# Altium integrated library WE-CMBH_rev15b.intlib: 5 symbols
Pins are listed as number, name and electrical type; pins without a type are passive.

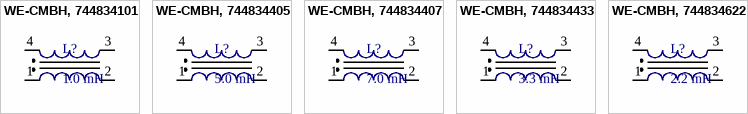
[diagram p0: symbols WE-CMBH, 744834101 to WE-CMBH, 744834622]

## WE-CMBH, 744834101
designator L?, comment 1.0 mH
THT Common Mode Power Line Choke WE-CMBH, L=1.0 mH; PartNo: 744834101; Manufacturer: Würth Elektronik eiSos GmbH; Inductance: 1.0 mH; ComponentLink1Description: Manufacturer; ComponentLink1URL: http://www.we-online.de; Created by: Otto Christin; Created Date: Aug 2013; ComponentLink2Description: Datasheet; ComponentLink2URL: http://www.we-online.de/katalog/media/pdf/744834101.pdf
footprint WE-CMBH (THT Inductor, 4-Leads, Body 28 x 32.5mm)
pins: 1, 2, 3, 4

## WE-CMBH, 744834405
designator L?, comment 5.0 mH
THT Common Mode Power Line Choke WE-CMBH, L=5.0 mH; PartNo: 744834405; Manufacturer: Würth Elektronik eiSos GmbH; Inductance: 5.0 mH; ComponentLink1Description: Manufacturer; ComponentLink1URL: http://www.we-online.de; Created by: Otto Christin; Created Date: Aug 2013; ComponentLink2Description: Datasheet; ComponentLink2URL: http://www.we-online.de/katalog/media/pdf/744834405.pdf
footprint WE-CMBH (THT Inductor, 4-Leads, Body 28 x 32.5mm)
pins: 1, 2, 3, 4

## WE-CMBH, 744834407
designator L?, comment 7.0 mH
THT Common Mode Power Line Choke WE-CMBH, L=7.0 mH; PartNo: 744834407; Manufacturer: Würth Elektronik eiSos GmbH; Inductance: 7.0 mH; ComponentLink1Description: Manufacturer; ComponentLink1URL: http://www.we-online.de; Created by: Otto Christin; Created Date: Aug 2013; ComponentLink2Description: Datasheet; ComponentLink2URL: http://www.we-online.de/katalog/media/pdf/744834407.pdf
footprint WE-CMBH (THT Inductor, 4-Leads, Body 28 x 32.5mm)
pins: 1, 2, 3, 4

## WE-CMBH, 744834433
designator L?, comment 3.3 mH
THT Common Mode Power Line Choke WE-CMBH, L=3.3 mH; PartNo: 744834433; Manufacturer: Würth Elektronik eiSos GmbH; Inductance: 3.3 mH; ComponentLink1Description: Manufacturer; ComponentLink1URL: http://www.we-online.de; Created by: Otto Christin; Created Date: Aug 2013; ComponentLink2Description: Datasheet; ComponentLink2URL: http://www.we-online.de/katalog/media/pdf/744834433.pdf
footprint WE-CMBH (THT Inductor, 4-Leads, Body 28 x 32.5mm)
pins: 1, 2, 3, 4

## WE-CMBH, 744834622
designator L?, comment 2.2 mH
THT Common Mode Power Line Choke WE-CMBH, L=2.2 mH; PartNo: 744834622; Manufacturer: Würth Elektronik eiSos GmbH; Inductance: 2.2 mH; ComponentLink1Description: Manufacturer; ComponentLink1URL: http://www.we-online.de; Created by: Otto Christin; Created Date: Aug 2013; ComponentLink2Description: Datasheet; ComponentLink2URL: http://www.we-online.de/katalog/media/pdf/744834622.pdf
footprint WE-CMBH (THT Inductor, 4-Leads, Body 28 x 32.5mm)
pins: 1, 2, 3, 4